# EAGLE library part LIS3LV02DL (library LIS3LV02DL)
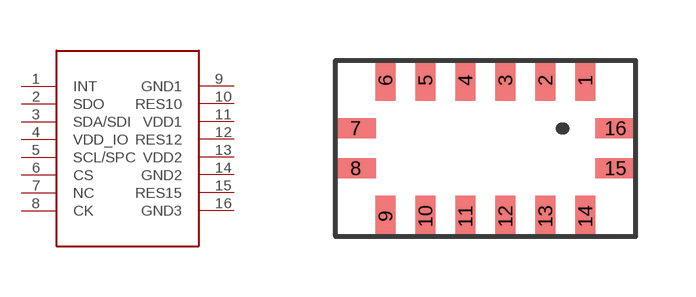
[diagram p0: symbol with the pads of LGA16-7.5X4.4; footprint LGA16-7.5X4.4]

Designator prefix -

## LIS3LV02DL  [LGA16-7.5X4.4]
1  INT
2  SDO
3  SDA/SDI
4  VDD_IO  pwr
5  SCL/SPC
6  CS
7  NC  nc
8  CK
9  GND1  pwr
10  RES10  nc
11  VDD1  pwr
12  RES12  nc
13  VDD2  pwr
14  GND2  pwr
15  RES15  nc
16  GND3  pwr

## Footprint LGA16-7.5X4.4 (pad centres in mm)
smd 0.508 x 1.016: 1 6.25,3.9; 2 5.25,3.9; 3 4.25,3.9; 4 3.25,3.9; 5 2.25,3.9; 6 1.25,3.9; 9 1.25,0.5; 10 2.25,0.5; 11 3.25,0.5; 12 4.25,0.5; 13 5.25,0.5; 14 6.25,0.5
smd 1.016 x 0.508: 7 0.5,2.7; 8 0.5,1.7; 15 7,1.7; 16 7,2.7